# EAGLE library part MULTIPLEXER-ADG1608BRUZ (library BiomedicalImagingLibrary)
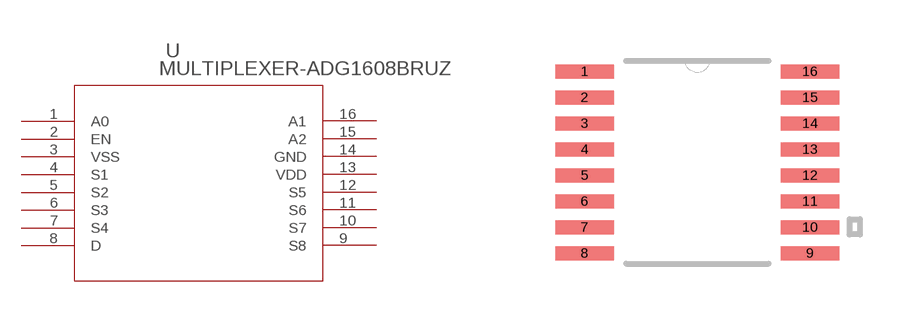
[diagram p0: symbol with the pads of RU_16; footprint RU_16]

Designator prefix U

## MULTIPLEXER-ADG1608BRUZ  [RU_16]
1  A0  pas
2  EN  pas
3  VSS  pas
4  S1  pas
5  S2  pas
6  S3  pas
7  S4  pas
8  D  pas
9  S8  pas
10  S7  pas
11  S6  pas
12  S5  pas
13  VDD  pas
14  GND  pas
15  A2  pas
16  A1  pas

## Footprint RU_16 (pad centres in mm)
smd 1.473 x 0.356: 1 -2.819,2.275; 2 -2.819,1.625; 3 -2.819,0.975; 4 -2.819,0.325; 5 -2.819,-0.325; 6 -2.819,-0.975; 7 -2.819,-1.625; 8 -2.819,-2.275; 9 2.819,-2.275; 10 2.819,-1.625; 11 2.819,-0.975; 12 2.819,-0.325; 13 2.819,0.325; 14 2.819,0.975; 15 2.819,1.625; 16 2.819,2.275